# Altium schematic symbol library KBP_307_Bridge.SchLib: 1 symbol
Pins are listed as number, name and electrical type; pins without a type are passive.

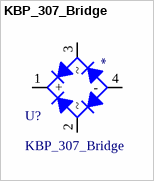
[diagram p0: symbol KBP_307_Bridge]

## KBP_307_Bridge
designator U?
KBP-307 Bridge Rectifiers ROHS; LCSC: *
footprint KBP-307_Bridge (KBP-307_Bridge Rectifiers ROHS)
pins: 1 +, 2 ~, 3 ~, 4 -